# EAGLE library part DRV8834 (library Controllers)
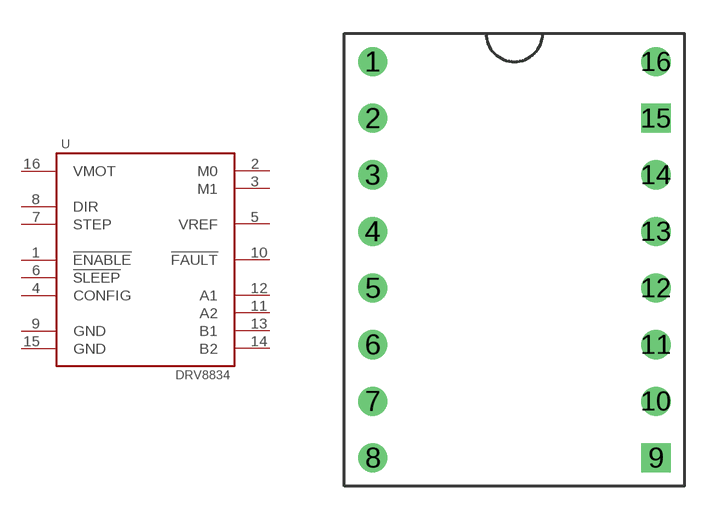
[diagram p1: symbol with the pads of DRV8834; footprint DRV8834]

Designator prefix -

## DRV8834  [DRV8834]
1  !ENABLE
2  M0
3  M1
4  CONFIG
5  VREF
6  !SLEEP
7  STEP
8  DIR
9  GND
10  !FAULT
11  A2
12  A1
13  B1
14  B2
15  GND
16  VMOT

## Footprint DRV8834 (pad centres in mm)
drill 0.8: 1 -6.35,8.89; 2 -6.35,6.35; 3 -6.35,3.81; 4 -6.35,1.27; 5 -6.35,-1.27; 6 -6.35,-3.81; 7 -6.35,-6.35; 8 -6.35,-8.89; 10 6.35,-6.35; 11 6.35,-3.81; 12 6.35,-1.27; 13 6.35,1.27; 14 6.35,3.81; 16 6.35,8.89
drill 0.8 square: 9 6.35,-8.89; 15 6.35,6.35